# Altium schematic symbol library BB-HEADER-P01-P02.SchLib: 1 symbol
Pins are listed as number, name and electrical type; pins without a type are passive.

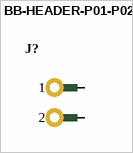
[diagram p0: symbol BB-HEADER-P01-P02]

## BB-HEADER-P01-P02
designator J?  (value not drawn)
BB Header, Vertical, Male, 0.1", 2.54mm, P01-P02
pins: 1, 2